# Altium schematic symbol library ICs - Logic.SchLib: 3 symbols
Pins are listed as number, name and electrical type; pins without a type are passive.

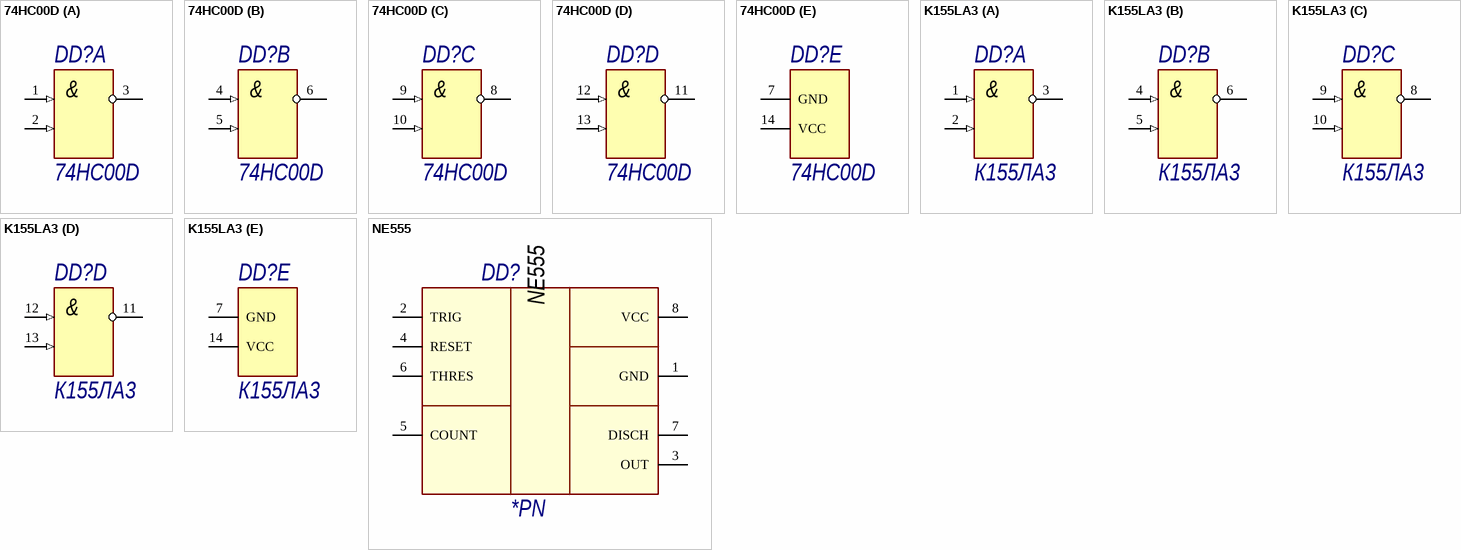
[diagram p0: symbols 74HC00D to NE555]

## 74HC00D
designator DD?  Part Number: 74HC00D  (hidden comment: *)
part A pins: 1 x1 (in), 2 x2 (in), 3 Y1
part B pins: 4 x3 (in), 5 x4 (in), 6 Y1
part C pins: 8 Y1, 9 x5 (in), 10 x6 (in)
part D pins: 11 Y1, 12 x7 (in), 13 x8 (in)
part E pins: 7 GND (power), 14 VCC (power)
part A text: &
part B text: &
part C text: &
part D text: &

## K155LA3
designator DD?  Part Number: К155ЛА3  (hidden comment: *)
part A pins: 1 x1 (in), 2 x2 (in), 3 Y1
part B pins: 4 x3 (in), 5 x4 (in), 6 Y1
part C pins: 8 Y1, 9 x5 (in), 10 x6 (in)
part D pins: 11 Y1, 12 x7 (in), 13 x8 (in)
part E pins: 7 GND (power), 14 VCC (power)
part A text: &
part B text: &
part C text: &
part D text: &

## NE555
designator DD?  Part Number: *PN  (hidden comment: *)
pins: 1 GND (power), 2 TRIG, 3 OUT, 4 RESET, 5 COUNT, 6 THRES, 7 DISCH, 8 VCC (power)